# Altium footprint library Resistors.PcbLib: 5 footprints
Each footprint in its own frame and in the unit in brackets; x right, y up, seen from the top. Pads: shape width x height; smd on the part's side, far side on the other; paste and mask are expansions set on the pad; w line width, h text height; cw(c..) or ccw(c..) is an arc to the next point about the centre after c.
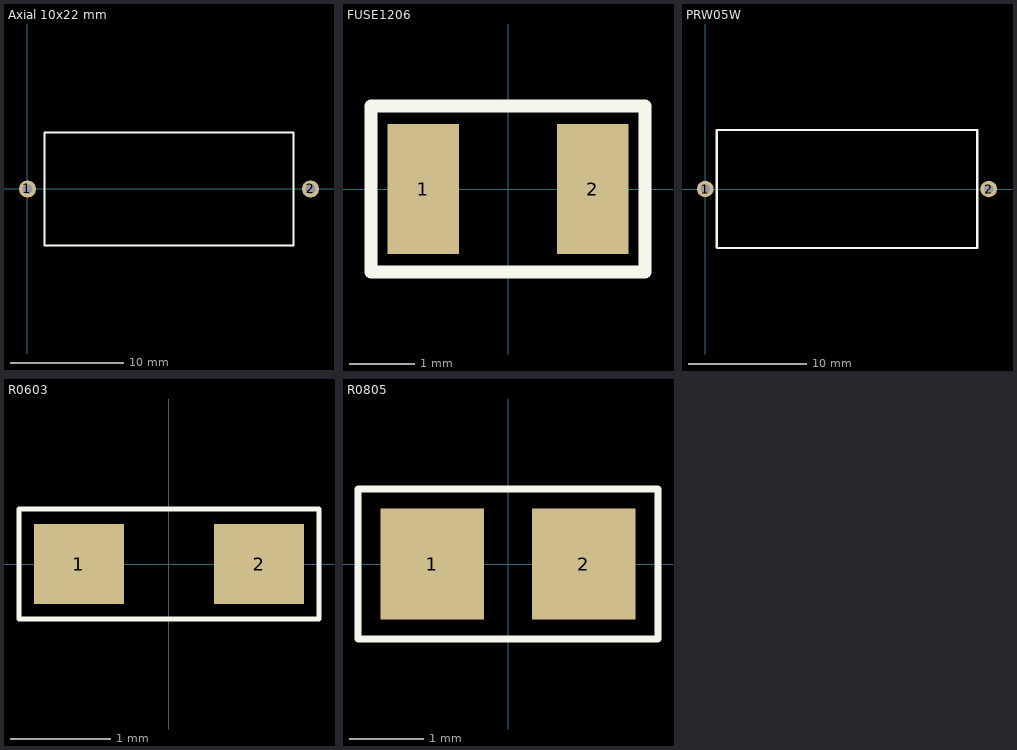
[diagram p0: the footprints below, top view; thin cyan lines are the x and y axes]

## Axial 10x22 mm [mm]
pads (2):
  round 1.5 hole 0.9: 1(0,0) 2(25,0)
Top Overlay:
  lines w0.2: 1.5,-5 1.5,0 1.5,5 23.5,5 23.5,-5 1.5,-5

## FUSE1206 [mm]
pads (2):
  rect 1.1x2 smd: 1(-1.3,0) 2(1.3,0)
Top Overlay:
  lines w0.2: -2.1,-1.27 -2.1,0.102 -2.1,1.27 2.1,1.27 2.1,-1.27 -2.1,-1.27

## PRW05W [mm]
pads (2):
  round 1.4 hole 0.8: 1(0,0) 2(24,0)
Top Overlay:
  lines w0.2: 0.981,-4.953 0.981,5 ; 1,-5 23,-5 ; 1,5 23,5 ; 23.019,-5 23.019,5

## R0603 [mm]
pads (2):
  rect 0.9x0.8 smd: 1(-0.9,0) 2(0.9,0)
Top Overlay:
  lines w0.05: -1.5,-0.55 -1.5,0 -1.5,0.55 1.5,0.55 1.5,-0.55 -1.5,-0.55

## R0805 [mm]
pads (2):
  rect 1.4x1.5 smd: 1(-1.025,0) 2(1.025,0)
Top Overlay:
  lines w0.1: -2.032,-1.016 2.032,-1.016 2.032,1.016 -2.032,1.016 -2.032,0.557 -2.032,-1.016